# Altium footprint library Quartz crystals.PcbLib: 11 footprints
Each footprint in its own frame and in the unit in brackets; x right, y up, seen from the top. Pads: shape width x height; smd on the part's side, far side on the other; paste and mask are expansions set on the pad; w line width, h text height; cw(c..) or ccw(c..) is an arc to the next point about the centre after c.
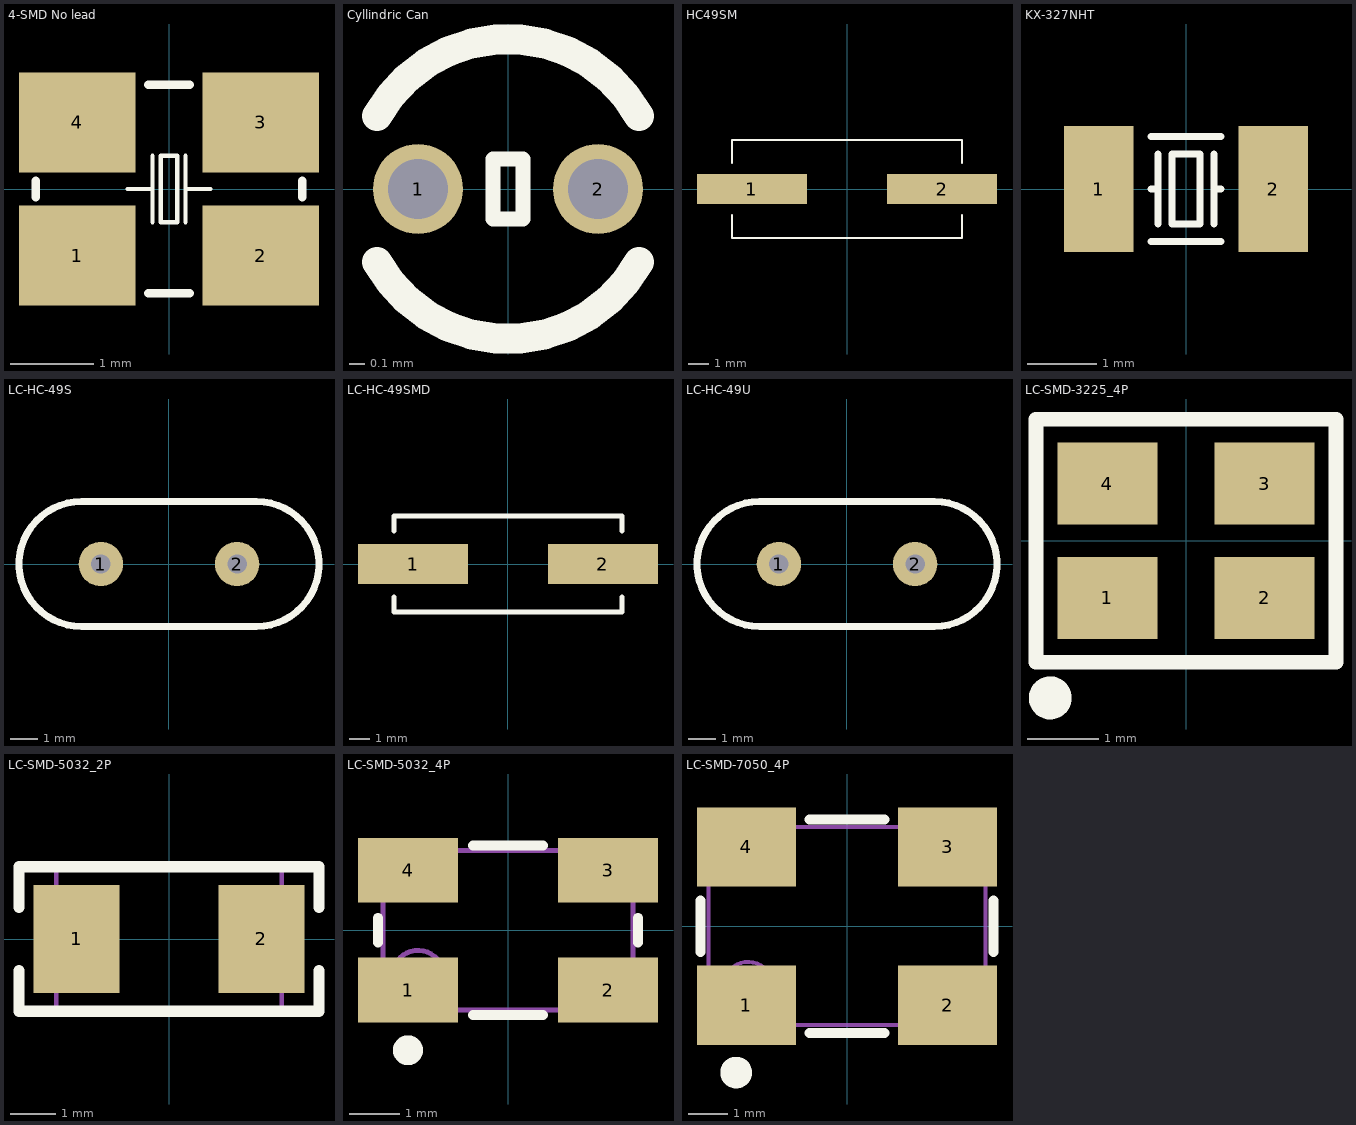
[diagram p0: the footprints below, top view; thin cyan lines are the x and y axes]

## 4-SMD No lead [mm] "4-SMD No lead"
pads (4):
  rect 1.4x1.2 smd mask+0.05: 1(-1.1,-0.8) 2(1.1,-0.8) 3(1.1,0.8) 4(-1.1,0.8)
Top Overlay:
  lines w0.05: -0.5,0 -0.2,0 ; -0.2,-0.4 -0.2,0.4 ; 0.2,-0.4 0.2,0.4 ; 0.2,0 0.5,0 ; -0.1,-0.4 -0.1,0.4 0.1,0.4 0.1,-0.4 -0.1,-0.4
  lines w0.1: -1.6,-0.1 -1.6,0.1 ; -0.25,-1.25 0.25,-1.25 ; -0.25,1.25 0.25,1.25 ; 1.6,-0.1 1.6,0.1

## Cyllindric Can [mm]
height 6
pads (2):
  round 0.6 hole 0.4 mask+0.05: 1(-0.6,0) 2(0.6,0)
Top Overlay:
  lines w0.1: -0.1,-0.2 -0.1,0.2 0.1,0.2 0.1,-0.2 -0.1,-0.2
  lines w0.2: -0.874,-0.486 ccw(c0,0) 0.874,-0.486 ; -0.874,0.486 cw(c0,0) 0.874,0.486

## HC49SM [mm] "HC49SM SMT footprint"
height 4
pads (2):
  rect 5.5x1.5 smd: 1(-4.75,0) 2(4.75,0)
Top Overlay:
  lines w0.1: -5.75,-1.305 -5.75,-2.45 5.75,-2.45 5.75,-1.305 ; -5.75,1.305 -5.75,2.45 5.75,2.45 5.75,1.305

## KX-327NHT [mm] "SMD Low-Freq Crystal"
height 0.8
pads (2):
  rect 1x1.8 smd mask+0.1: 1(-1.25,0) 2(1.25,0)
Top Overlay:
  lines w0.1: -0.5,-0.75 0.5,-0.75 ; -0.5,0 -0.4,0 ; -0.5,0.75 0.5,0.75 ; -0.4,-0.5 -0.4,0.5 ; 0.4,-0.5 0.4,0.5 ; 0.4,0 0.5,0 ; -0.2,-0.5 -0.2,0.5 0.2,0.5 0.2,-0.5 -0.2,-0.5
3D body "KX-327NHT.STEP": height 0.71, standoff 0, extent -1.6,-0.75 1.6,0.75

## LC-HC-49S [mm]
pads (2):
  round 1.6 hole 0.7: 1(-2.45,0) 2(2.45,0)
Top Overlay:
  lines w0.254: -3.15,-2.248 cw(c-3.15,0) -3.15,2.248 3.15,2.248 cw(c3.15,0) 3.15,-2.248 -3.15,-2.248
3D body "hc-49s_n.stp": height 3.6, standoff -2.9, extent -5.388,-2.27 5.412,2.23

## LC-HC-49SMD [mm]
pads (2):
  rect 5.5x2 smd: 1(-4.75,0) 2(4.75,0)
Top Overlay:
  lines w0.254: -5.7,-1.65 -5.7,-2.4 5.7,-2.4 5.7,-1.65 ; -5.7,1.65 -5.7,2.4 5.7,2.4 5.7,1.65
3D body "User Library-hc49_cystal.STEP": height 4, standoff 0, extent -6.7,-2.462 6.7,2.438

## LC-HC-49U [mm]
pads (2):
  round 1.6 hole 0.7: 1(-2.45,0) 2(2.45,0)
Top Overlay:
  lines w0.254: -3.15,-2.248 cw(c-3.15,0) -3.15,2.248 3.15,2.248 cw(c3.15,0) 3.15,-2.248 -3.15,-2.248
3D body "hc-49u_n.stp": height 13.1, standoff -2.9, extent -5.398,-2.245 5.402,2.255

## LC-SMD-3225_4P [mm]
pads (4):
  rect 1.4x1.15 smd: 1(-1.1,-0.8) 2(1.1,-0.8) 3(1.1,0.8) 4(-1.1,0.8)
Top Overlay:
  circle w0.3: c-1.9,-2.2 r0.15
  lines w0.203: -2.1,-1.7 2.1,-1.7 2.1,1.7 -2.1,1.7 -2.1,-1.7
3D body "User Library-3225-1.STEP": height 0.61, standoff 0, extent -1.6,-1.25 1.6,1.25

## LC-SMD-5032_2P [mm]
pads (2):
  rect 1.9x2.4 smd: 1(-2.05,0) 2(2.05,0)
Top Overlay:
  lines w0.254: -3.325,-0.7 -3.325,-1.6 3.325,-1.6 3.325,-0.7 ; -3.325,0.7 -3.325,1.6 3.325,1.6 3.325,0.7
Mechanical 13:
  lines w0.1: -2.5,-1.6 2.5,-1.6 2.5,1.6 -2.5,1.6 -2.5,-1.6

## LC-SMD-5032_4P [mm]
pads (4):
  rect 2x1.3 smd: 1(-2,-1.2) 2(2,-1.2) 3(2,1.2) 4(-2,1.2)
Top Overlay:
  circle w0.3: c-2,-2.4 r0.15
  lines w0.2: -2.6,-0.25 -2.6,0.25 ; -0.7,-1.7 0.7,-1.7 ; -0.7,1.7 0.7,1.7 ; 2.6,-0.25 2.6,0.25
Mechanical 13:
  circle w0.1: c-1.8,-0.9 r0.5
  lines w0.1: -2.5,-1.6 -2.5,1.6 2.5,1.6 2.5,-1.6 -2.5,-1.6

## LC-SMD-7050_4P [mm]
pads (4):
  rect 2.5x2 smd: 1(-2.54,-2) 2(2.54,-2) 3(2.54,2) 4(-2.54,2)
Top Overlay:
  circle w0.4: c-2.8,-3.7 r0.2
  lines w0.254: -3.7,-0.65 -3.7,0.65 ; -0.95,-2.7 0.95,-2.7 ; -0.95,2.7 0.95,2.7 ; 3.7,-0.65 3.7,0.65
Mechanical 13:
  circle w0.1: c-2.5,-1.5 r0.6
  lines w0.1: -3.5,-2.5 -3.5,2.5 3.5,2.5 3.5,-2.5 -3.5,-2.5